# EAGLE library part TLE7230GS (library Infineon)
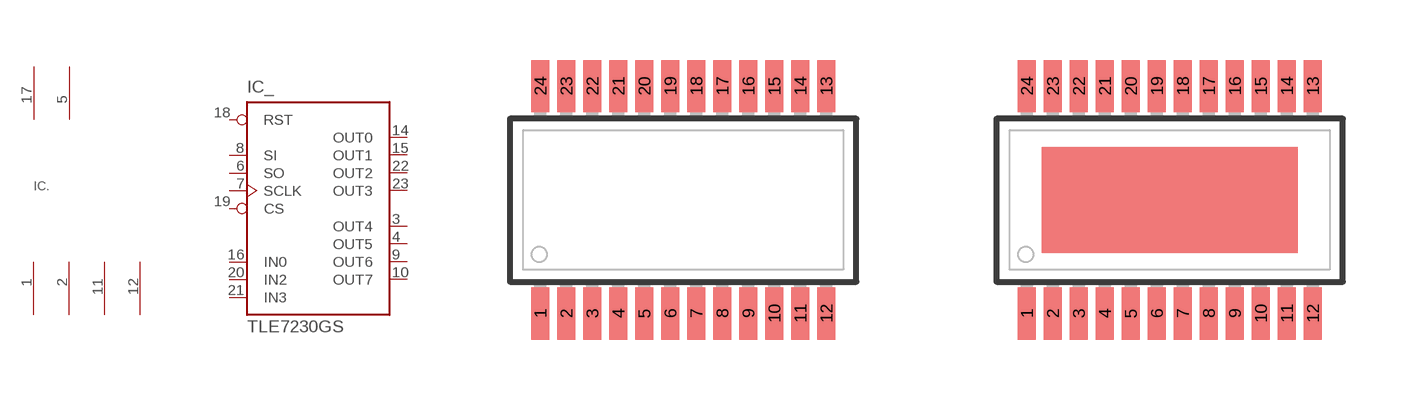
[diagram p1: symbol with the pads of SSOP24; footprints SSOP24, SSOP24DIE]

Designator prefix IC; gates _=TLE7232GS .=1VDD1VSO4GND

## TLE7230GSG  [SSOP24]
1  .:GND  pwr
2  .:GND  pwr
3  _:OUT4  oc
4  _:OUT5  oc
5  .:VSO  pwr
6  _:SO  oc
7  _:SCLK  in
8  _:SI  in
9  _:OUT6  oc
10  _:OUT7  oc
11  .:GND  pwr
12  .:GND  pwr
14  _:OUT0  oc
15  _:OUT1  oc
16  _:IN0  in
17  .:VDD  pwr
18  _:RST  in
19  _:CS  in
20  _:IN2  in
21  _:IN3  in
22  _:OUT2  oc
23  _:OUT3  oc

## TLE7230GSGSD  [SSOP24DIE]
Pads as for SSOP24

## Footprint SSOP24 (pad centres in mm)
Small Shrink Outline Package SOT340-1 / JEDEC MO-150AG
smd 0.45 x 1.31: 1 -3.575,-2.695; 2 -2.925,-2.695; 3 -2.275,-2.695; 4 -1.625,-2.695; 5 -0.975,-2.695; 6 -0.325,-2.695; 7 0.325,-2.695; 8 0.975,-2.695; 9 1.625,-2.695; 10 2.275,-2.695; 11 2.925,-2.695; 12 3.575,-2.695; 13 3.575,2.995; 14 2.925,2.995; 15 2.275,2.995; 16 1.625,2.995; 17 0.975,2.995; 18 0.325,2.995; 19 -0.325,2.995; 20 -0.975,2.995; 21 -1.625,2.995; 22 -2.275,2.995; 23 -2.925,2.995; 24 -3.575,2.995

## Footprint SSOP24DIE (pad centres in mm)
Small Shrink Outline Package SOT340-1 / JEDEC MO-150AG
smd 0.45 x 1.31: 1 -3.575,-2.695; 2 -2.925,-2.695; 3 -2.275,-2.695; 4 -1.625,-2.695; 5 -0.975,-2.695; 6 -0.325,-2.695; 7 0.325,-2.695; 8 0.975,-2.695; 9 1.625,-2.695; 10 2.275,-2.695; 11 2.925,-2.695; 12 3.575,-2.695; 13 3.575,2.995; 14 2.925,2.995; 15 2.275,2.995; 16 1.625,2.995; 17 0.975,2.995; 18 0.325,2.995; 19 -0.325,2.995; 20 -0.975,2.995; 21 -1.625,2.995; 22 -2.275,2.995; 23 -2.925,2.995; 24 -3.575,2.995